# EAGLE library part TMP100 (library Stofer)
Texas I2c Temperature sensor
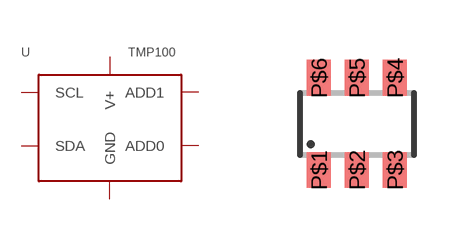
[diagram p13: symbol with the pads of SOT23-6; footprint SOT23-6]

Designator prefix -

## TMP100  [SOT23-6]
P$1  SCL  in
P$2  GND  pwr
P$3  ADD1  in
P$4  V+  pwr
P$5  ADD0  in
P$6  SDA

## Footprint SOT23-6 (pad centres in mm)
Small Outline Transistor 6 lead
smd 0.6 x 0.9: P$1 -0.95,-1.15; P$2 0,-1.15; P$3 0.95,-1.15; P$4 0.95,1.15; P$5 0,1.15; P$6 -0.95,1.15